# EAGLE library part LTC4011 (library linear-technology)
Nickel Battery Charger
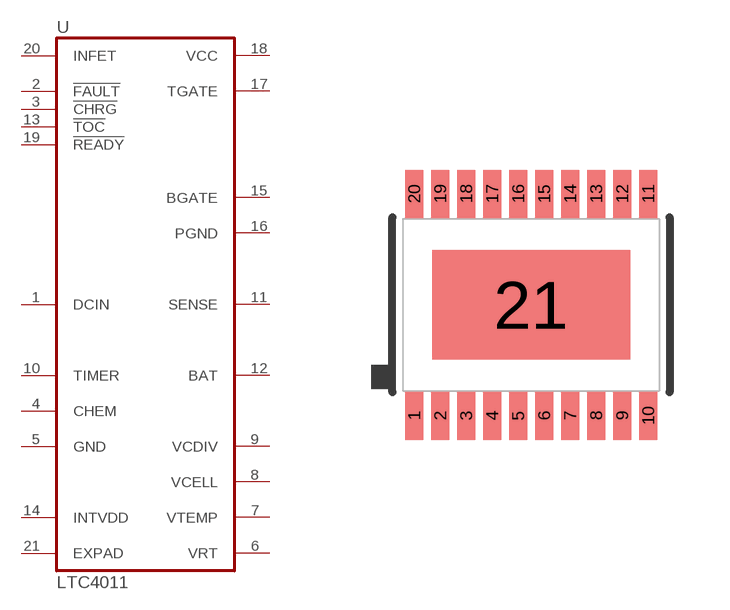
[diagram p62: symbol with the pads of TSSOP20-CB; footprint TSSOP20-CB]

Designator prefix U

## LTC4011  [TSSOP20-CB]
1  DCIN  in
2  !FAULT!  oc
3  !CHRG!  oc
4  CHEM  in
5  GND  pwr
6  VRT  out
7  VTEMP  in
8  VCELL  in
9  VCDIV  oc
10  TIMER  in
11  SENSE  in
12  BAT  pas
13  !TOC!  oc
14  INTVDD  out
15  BGATE  out
16  PGND  pas
17  TGATE  out
18  VCC  pwr
19  !READY!  out
20  INFET  out
21  EXPAD  pas

## Footprint TSSOP20-CB (pad centres in mm)
Thin Shrink Small Outline Plastic 20 FE Package 20-Lead Plastic TSSOP (4.4mm) (Reference LTC DWG # 05-08-1663 Rev J) Exposed Pad Variation CB
smd 0.45 x 1.2: 1 -2.925,-2.775; 2 -2.275,-2.775; 3 -1.625,-2.775; 4 -0.975,-2.775; 5 -0.325,-2.775; 6 0.325,-2.775; 7 0.975,-2.775; 8 1.625,-2.775; 9 2.275,-2.775; 10 2.925,-2.775; 11 2.925,2.775; 12 2.275,2.775; 13 1.625,2.775; 14 0.975,2.775; 15 0.325,2.775; 16 -0.325,2.775; 17 -0.975,2.775; 18 -1.625,2.775; 19 -2.275,2.775; 20 -2.925,2.775
smd 4.95 x 2.74: 21 0,0